# EAGLE library part 20020110-D061A01LF (library ELE3000)
Terminal block Header 6 positions 3.81 mm right angle
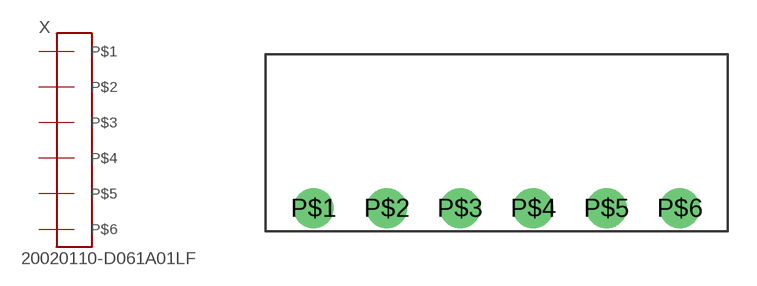
[diagram p2: symbol with the pads of 20020110-D061A0; footprint 20020110-D061A0]

Designator prefix X

## 20020110-D061A01LF  [20020110-D061A0]
P$1  P$1
P$2  P$2
P$3  P$3
P$4  P$4
P$5  P$5
P$6  P$6

## Footprint 20020110-D061A0 (pad centres in mm)
drill 1.4: P$1 -8.89,-3.81; P$2 -5.08,-3.81; P$3 -1.27,-3.81; P$4 2.54,-3.81; P$5 6.35,-3.81; P$6 10.16,-3.81